# Altium integrated library Altium_WE-PD_rev22g.IntLib: 360 symbols (part 6 of 7)
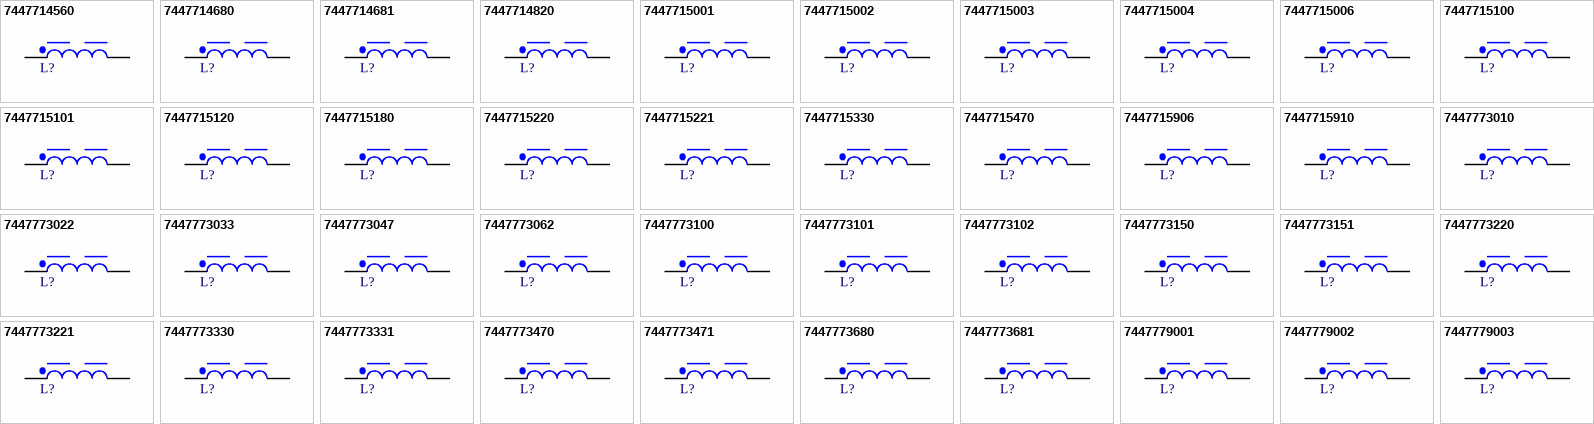
[diagram p13: symbols 7447714560 to 7447779003]

## 7447779001
designator L?, comment 1uH, 5.3A  (value not drawn)
WE-PD SMT Power Inductor, size 7345R, 1uH, 5.3A, 15mOhm; Manufacturer Part Number: 7447779001; Manufacturer: Wurth Elektronik; DC Resistance: 10mOhm; Saturation Current: 9.5A; Self Resonant Frequency: 100MHz; Type: Robust; Category: Power Inductors; Match Code: WE-PD; ComponentLink1Description: Website Link; ComponentLink1URL: https://www.we-online.com/redexpert/article/7447779001?ad; ComponentLink2Description: Datasheet Link; ComponentLink2URL: https://www.we-online.com/redexpert/spec/7447779001?ad; Mount: Surface Mount; Operating Temperature Max: 125°C; Operating Temperature Min: -40°C; Packaging: Tape and Reel; Case/Size Code: 7345R; Length: 7.3mm; Width: 7.3mm; Height: 4.5mm; DC Resistance Max: 15mOhm; Inductance: 1uH; Rated Current: 5.3A
footprint WE-PD_7345R
simulation model 7345_7447779001_1u
pins: 1, 2

## 7447779002
designator L?, comment 2.2uH, 4.2A  (value not drawn)
WE-PD SMT Power Inductor, size 7345R, 2.2uH, 4.2A, 20mOhm; Manufacturer Part Number: 7447779002; Manufacturer: Wurth Elektronik; DC Resistance: 16mOhm; Saturation Current: 6A; Self Resonant Frequency: 60MHz; Type: Robust; Category: Power Inductors; Match Code: WE-PD; ComponentLink1Description: Website Link; ComponentLink1URL: https://www.we-online.com/redexpert/article/7447779002?ad; ComponentLink2Description: Datasheet Link; ComponentLink2URL: https://www.we-online.com/redexpert/spec/7447779002?ad; Mount: Surface Mount; Operating Temperature Max: 125°C; Operating Temperature Min: -40°C; Packaging: Tape and Reel; Case/Size Code: 7345R; Length: 7.3mm; Width: 7.3mm; Height: 4.5mm; DC Resistance Max: 20mOhm; Inductance: 2.2uH; Rated Current: 4.2A
footprint WE-PD_7345R
simulation model 7345_7447779002_2.2u
pins: 1, 2

## 7447779003
designator L?, comment 3.3uH, 3.3A  (value not drawn)
WE-PD SMT Power Inductor, size 7345R, 3.3uH, 3.3A, 30mOhm; Manufacturer Part Number: 7447779003; Manufacturer: Wurth Elektronik; DC Resistance: 26mOhm; Saturation Current: 4.5A; Self Resonant Frequency: 55MHz; Type: Robust; Category: Power Inductors; Match Code: WE-PD; ComponentLink1Description: Website Link; ComponentLink1URL: https://www.we-online.com/redexpert/article/7447779003?ad; ComponentLink2Description: Datasheet Link; ComponentLink2URL: https://www.we-online.com/redexpert/spec/7447779003?ad; Mount: Surface Mount; Operating Temperature Max: 125°C; Operating Temperature Min: -40°C; Packaging: Tape and Reel; Case/Size Code: 7345R; Length: 7.3mm; Width: 7.3mm; Height: 4.5mm; DC Resistance Max: 30mOhm; Inductance: 3.3uH; Rated Current: 3.3A
footprint WE-PD_7345R
simulation model 7345_7447779003_3.3u
pins: 1, 2

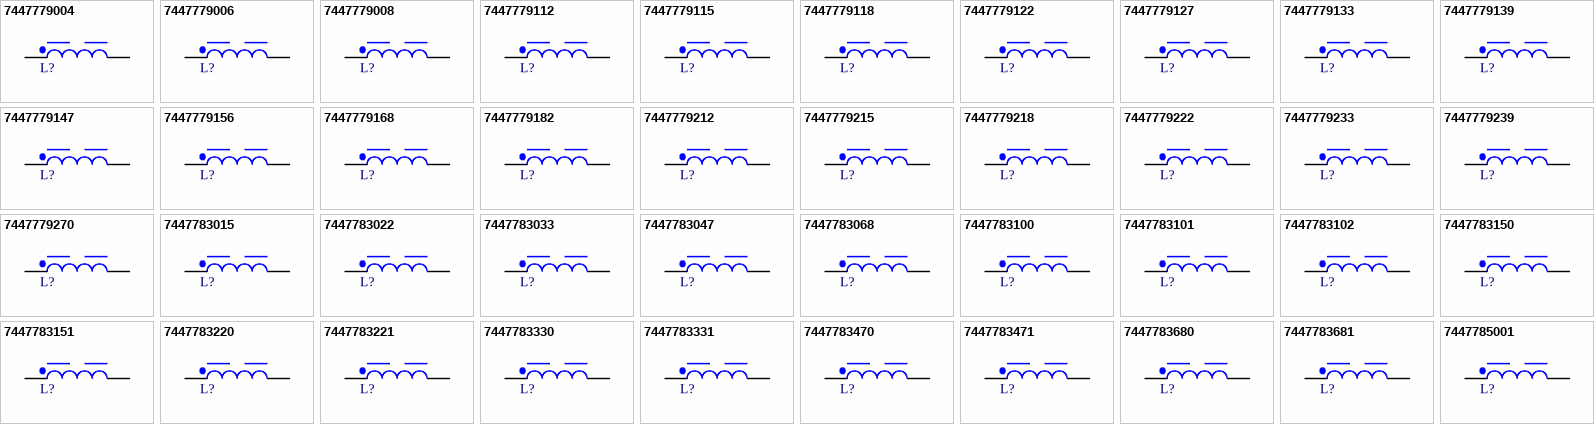
[diagram p7: symbols 7447779004 to 7447785001]

## 7447779004
designator L?, comment 4.7uH, 3.16A  (value not drawn)
WE-PD SMT Power Inductor, size 7345R, 4.7uH, 3.16A, 32mOhm; Manufacturer Part Number: 7447779004; Manufacturer: Wurth Elektronik; DC Resistance: 28mOhm; Saturation Current: 4.4A; Self Resonant Frequency: 37MHz; Type: Robust; Category: Power Inductors; Match Code: WE-PD; ComponentLink1Description: Website Link; ComponentLink1URL: https://www.we-online.com/redexpert/article/7447779004?ad; ComponentLink2Description: Datasheet Link; ComponentLink2URL: https://www.we-online.com/redexpert/spec/7447779004?ad; Mount: Surface Mount; Operating Temperature Max: 125°C; Operating Temperature Min: -40°C; Packaging: Tape and Reel; Case/Size Code: 7345R; Length: 7.3mm; Width: 7.3mm; Height: 4.5mm; DC Resistance Max: 32mOhm; Inductance: 4.7uH; Rated Current: 3.16A
footprint WE-PD_7345R
simulation model 7345_7447779004_4.7u
pins: 1, 2

## 7447779006
designator L?, comment 6.8uH, 2.91A  (value not drawn)
WE-PD SMT Power Inductor, size 7345R, 6.8uH, 2.91A, 35mOhm; Manufacturer Part Number: 7447779006; Manufacturer: Wurth Elektronik; DC Resistance: 33mOhm; Saturation Current: 3.3A; Self Resonant Frequency: 32MHz; Type: Robust; Category: Power Inductors; Match Code: WE-PD; ComponentLink1Description: Website Link; ComponentLink1URL: https://www.we-online.com/redexpert/article/7447779006?ad; ComponentLink2Description: Datasheet Link; ComponentLink2URL: https://www.we-online.com/redexpert/spec/7447779006?ad; Mount: Surface Mount; Operating Temperature Max: 125°C; Operating Temperature Min: -40°C; Packaging: Tape and Reel; Case/Size Code: 7345R; Length: 7.3mm; Width: 7.3mm; Height: 4.5mm; DC Resistance Max: 35mOhm; Inductance: 6.8uH; Rated Current: 2.91A
footprint WE-PD_7345R
simulation model 7345_7447779006_6.8u
pins: 1, 2

## 7447779008
designator L?, comment 8.2uH, 2.7A  (value not drawn)
WE-PD SMT Power Inductor, size 7345R, 8.2uH, 2.7A, 53mOhm; Manufacturer Part Number: 7447779008; Manufacturer: Wurth Elektronik; DC Resistance: 47mOhm; Saturation Current: 3A; Self Resonant Frequency: 28MHz; Type: Robust; Category: Power Inductors; Match Code: WE-PD; ComponentLink1Description: Website Link; ComponentLink1URL: https://www.we-online.com/redexpert/article/7447779008?ad; ComponentLink2Description: Datasheet Link; ComponentLink2URL: https://www.we-online.com/redexpert/spec/7447779008?ad; Mount: Surface Mount; Operating Temperature Max: 125°C; Operating Temperature Min: -40°C; Packaging: Tape and Reel; Case/Size Code: 7345R; Length: 7.3mm; Width: 7.3mm; Height: 4.5mm; DC Resistance Max: 53mOhm; Inductance: 8.2uH; Rated Current: 2.7A
footprint WE-PD_7345R
simulation model 7345_7447779008_8.2u
pins: 1, 2

## 7447779112
designator L?, comment 12uH, 1.82A  (value not drawn)
WE-PD SMT Power Inductor, size 7345R, 12uH, 1.82A, 62mOhm; Manufacturer Part Number: 7447779112; Manufacturer: Wurth Elektronik; DC Resistance: 52mOhm; Saturation Current: 2.4A; Self Resonant Frequency: 23MHz; Type: Robust; Category: Power Inductors; Match Code: WE-PD; ComponentLink1Description: Website Link; ComponentLink1URL: https://www.we-online.com/redexpert/article/7447779112?ad; ComponentLink2Description: Datasheet Link; ComponentLink2URL: https://www.we-online.com/redexpert/spec/7447779112?ad; Mount: Surface Mount; Operating Temperature Max: 125°C; Operating Temperature Min: -40°C; Packaging: Tape and Reel; Case/Size Code: 7345R; Length: 7.3mm; Width: 7.3mm; Height: 4.5mm; DC Resistance Max: 62mOhm; Inductance: 12uH; Rated Current: 1.82A
footprint WE-PD_7345R
simulation model 7345_7447779112_12u
pins: 1, 2

## 7447779115
designator L?, comment 15uH, 1.6A  (value not drawn)
WE-PD SMT Power Inductor, size 7345R, 15uH, 1.6A, 81mOhm; Manufacturer Part Number: 7447779115; Manufacturer: Wurth Elektronik; DC Resistance: 70mOhm; Saturation Current: 2.2A; Self Resonant Frequency: 19.5MHz; Type: Robust; Category: Power Inductors; Match Code: WE-PD; ComponentLink1Description: Website Link; ComponentLink1URL: https://www.we-online.com/redexpert/article/7447779115?ad; ComponentLink2Description: Datasheet Link; ComponentLink2URL: https://www.we-online.com/redexpert/spec/7447779115?ad; Mount: Surface Mount; Operating Temperature Max: 125°C; Operating Temperature Min: -40°C; Packaging: Tape and Reel; Case/Size Code: 7345R; Length: 7.3mm; Width: 7.3mm; Height: 4.5mm; DC Resistance Max: 81mOhm; Inductance: 15uH; Rated Current: 1.6A
footprint WE-PD_7345R
simulation model 7345_7447779115_15u
pins: 1, 2

## 7447779118
designator L?, comment 18uH, 1.5A  (value not drawn)
WE-PD SMT Power Inductor, size 7345R, 18uH, 1.5A, 91mOhm; Manufacturer Part Number: 7447779118; Manufacturer: Wurth Elektronik; DC Resistance: 80mOhm; Saturation Current: 2.05A; Self Resonant Frequency: 19MHz; Type: Robust; Category: Power Inductors; Match Code: WE-PD; ComponentLink1Description: Website Link; ComponentLink1URL: https://www.we-online.com/redexpert/article/7447779118?ad; ComponentLink2Description: Datasheet Link; ComponentLink2URL: https://www.we-online.com/redexpert/spec/7447779118?ad; Mount: Surface Mount; Operating Temperature Max: 125°C; Operating Temperature Min: -40°C; Packaging: Tape and Reel; Case/Size Code: 7345R; Length: 7.3mm; Width: 7.3mm; Height: 4.5mm; DC Resistance Max: 91mOhm; Inductance: 18uH; Rated Current: 1.5A
footprint WE-PD_7345R
simulation model 7345_7447779118_18u
pins: 1, 2

## 7447779122
designator L?, comment 22uH, 1.41A  (value not drawn)
WE-PD SMT Power Inductor, size 7345R, 22uH, 1.41A, 110mOhm; Manufacturer Part Number: 7447779122; Manufacturer: Wurth Elektronik; DC Resistance: 90mOhm; Saturation Current: 1.7A; Self Resonant Frequency: 17MHz; Type: Robust; Category: Power Inductors; Match Code: WE-PD; ComponentLink1Description: Website Link; ComponentLink1URL: https://www.we-online.com/redexpert/article/7447779122?ad; ComponentLink2Description: Datasheet Link; ComponentLink2URL: https://www.we-online.com/redexpert/spec/7447779122?ad; Mount: Surface Mount; Operating Temperature Max: 125°C; Operating Temperature Min: -40°C; Packaging: Tape and Reel; Case/Size Code: 7345R; Length: 7.3mm; Width: 7.3mm; Height: 4.5mm; DC Resistance Max: 110mOhm; Inductance: 22uH; Rated Current: 1.41A
footprint WE-PD_7345R
simulation model 7345_7447779122_22u
pins: 1, 2

## 7447779127
designator L?, comment 27uH, 1.24A  (value not drawn)
WE-PD SMT Power Inductor, size 7345R, 27uH, 1.24A, 150mOhm; Manufacturer Part Number: 7447779127; Manufacturer: Wurth Elektronik; DC Resistance: 120mOhm; Saturation Current: 1.55A; Self Resonant Frequency: 15MHz; Type: Robust; Category: Power Inductors; Match Code: WE-PD; ComponentLink1Description: Website Link; ComponentLink1URL: https://www.we-online.com/redexpert/article/7447779127?ad; ComponentLink2Description: Datasheet Link; ComponentLink2URL: https://www.we-online.com/redexpert/spec/7447779127?ad; Mount: Surface Mount; Operating Temperature Max: 125°C; Operating Temperature Min: -40°C; Packaging: Tape and Reel; Case/Size Code: 7345R; Length: 7.3mm; Width: 7.3mm; Height: 4.5mm; DC Resistance Max: 150mOhm; Inductance: 27uH; Rated Current: 1.24A
footprint WE-PD_7345R
simulation model 7345_7447779127_27u
pins: 1, 2

## 7447779133
designator L?, comment 33uH, 1.13A  (value not drawn)
WE-PD SMT Power Inductor, size 7345R, 33uH, 1.13A, 170mOhm; Manufacturer Part Number: 7447779133; Manufacturer: Wurth Elektronik; DC Resistance: 140mOhm; Saturation Current: 1.4A; Self Resonant Frequency: 13MHz; Type: Robust; Category: Power Inductors; Match Code: WE-PD; ComponentLink1Description: Website Link; ComponentLink1URL: https://www.we-online.com/redexpert/article/7447779133?ad; ComponentLink2Description: Datasheet Link; ComponentLink2URL: https://www.we-online.com/redexpert/spec/7447779133?ad; Mount: Surface Mount; Operating Temperature Max: 125°C; Operating Temperature Min: -40°C; Packaging: Tape and Reel; Case/Size Code: 7345R; Length: 7.3mm; Width: 7.3mm; Height: 4.5mm; DC Resistance Max: 170mOhm; Inductance: 33uH; Rated Current: 1.13A
footprint WE-PD_7345R
simulation model 7345_7447779133_33u
pins: 1, 2

## 7447779139
designator L?, comment 39uH, 1.11A  (value not drawn)
WE-PD SMT Power Inductor, size 7345R, 39uH, 1.11A, 230mOhm; Manufacturer Part Number: 7447779139; Manufacturer: Wurth Elektronik; DC Resistance: 145mOhm; Saturation Current: 1.23A; Self Resonant Frequency: 12MHz; Type: Robust; Category: Power Inductors; Match Code: WE-PD; ComponentLink1Description: Website Link; ComponentLink1URL: https://www.we-online.com/redexpert/article/7447779139?ad; ComponentLink2Description: Datasheet Link; ComponentLink2URL: https://www.we-online.com/redexpert/spec/7447779139?ad; Mount: Surface Mount; Operating Temperature Max: 125°C; Operating Temperature Min: -40°C; Packaging: Tape and Reel; Case/Size Code: 7345R; Length: 7.3mm; Width: 7.3mm; Height: 4.5mm; DC Resistance Max: 230mOhm; Inductance: 39uH; Rated Current: 1.11A
footprint WE-PD_7345R
simulation model 7345_7447779139_39u
pins: 1, 2

## 7447779147
designator L?, comment 47uH, 1.03A  (value not drawn)
WE-PD SMT Power Inductor, size 7345R, 47uH, 1.03A, 260mOhm; Manufacturer Part Number: 7447779147; Manufacturer: Wurth Elektronik; DC Resistance: 190mOhm; Saturation Current: 1.1A; Self Resonant Frequency: 10.5MHz; Type: Robust; Category: Power Inductors; Match Code: WE-PD; ComponentLink1Description: Website Link; ComponentLink1URL: https://www.we-online.com/redexpert/article/7447779147?ad; ComponentLink2Description: Datasheet Link; ComponentLink2URL: https://www.we-online.com/redexpert/spec/7447779147?ad; Mount: Surface Mount; Operating Temperature Max: 125°C; Operating Temperature Min: -40°C; Packaging: Tape and Reel; Case/Size Code: 7345R; Length: 7.3mm; Width: 7.3mm; Height: 4.5mm; DC Resistance Max: 260mOhm; Inductance: 47uH; Rated Current: 1.03A
footprint WE-PD_7345R
simulation model 7345_7447779147_47u
pins: 1, 2

## 7447779156
designator L?, comment 56uH, 0.93A  (value not drawn)
WE-PD SMT Power Inductor, size 7345R, 56uH, 0.93A, 350mOhm; Manufacturer Part Number: 7447779156; Manufacturer: Wurth Elektronik; DC Resistance: 228mOhm; Saturation Current: 1.05A; Self Resonant Frequency: 10MHz; Type: Robust; Category: Power Inductors; Match Code: WE-PD; ComponentLink1Description: Website Link; ComponentLink1URL: https://www.we-online.com/redexpert/article/7447779156?ad; ComponentLink2Description: Datasheet Link; ComponentLink2URL: https://www.we-online.com/redexpert/spec/7447779156?ad; Mount: Surface Mount; Operating Temperature Max: 125°C; Operating Temperature Min: -40°C; Packaging: Tape and Reel; Case/Size Code: 7345R; Length: 7.3mm; Width: 7.3mm; Height: 4.5mm; DC Resistance Max: 350mOhm; Inductance: 56uH; Rated Current: 0.93A
footprint WE-PD_7345R
simulation model 7345_7447779156_56u
pins: 1, 2

## 7447779168
designator L?, comment 68uH, 0.87A  (value not drawn)
WE-PD SMT Power Inductor, size 7345R, 68uH, 0.87A, 380mOhm; Manufacturer Part Number: 7447779168; Manufacturer: Wurth Elektronik; DC Resistance: 239mOhm; Saturation Current: 0.95A; Self Resonant Frequency: 9MHz; Type: Robust; Category: Power Inductors; Match Code: WE-PD; ComponentLink1Description: Website Link; ComponentLink1URL: https://www.we-online.com/redexpert/article/7447779168?ad; ComponentLink2Description: Datasheet Link; ComponentLink2URL: https://www.we-online.com/redexpert/spec/7447779168?ad; Mount: Surface Mount; Operating Temperature Max: 125°C; Operating Temperature Min: -40°C; Packaging: Tape and Reel; Case/Size Code: 7345R; Length: 7.3mm; Width: 7.3mm; Height: 4.5mm; DC Resistance Max: 380mOhm; Inductance: 68uH; Rated Current: 0.87A
footprint WE-PD_7345R
simulation model 7345_7447779168_68u
pins: 1, 2

## 7447779182
designator L?, comment 82uH, 0.84A  (value not drawn)
WE-PD SMT Power Inductor, size 7345R, 82uH, 0.84A, 430mOhm; Manufacturer Part Number: 7447779182; Manufacturer: Wurth Elektronik; DC Resistance: 250mOhm; Saturation Current: 0.9A; Self Resonant Frequency: 8MHz; Type: Robust; Category: Power Inductors; Match Code: WE-PD; ComponentLink1Description: Website Link; ComponentLink1URL: https://www.we-online.com/redexpert/article/7447779182?ad; ComponentLink2Description: Datasheet Link; ComponentLink2URL: https://www.we-online.com/redexpert/spec/7447779182?ad; Mount: Surface Mount; Operating Temperature Max: 125°C; Operating Temperature Min: -40°C; Packaging: Tape and Reel; Case/Size Code: 7345R; Length: 7.3mm; Width: 7.3mm; Height: 4.5mm; DC Resistance Max: 430mOhm; Inductance: 82uH; Rated Current: 0.84A
footprint WE-PD_7345R
simulation model 7345_7447779182_82u
pins: 1, 2

## 7447779212
designator L?, comment 120uH, 0.67A  (value not drawn)
WE-PD SMT Power Inductor, size 7345R, 120uH, 0.67A, 660mOhm; Manufacturer Part Number: 7447779212; Manufacturer: Wurth Elektronik; DC Resistance: 396mOhm; Saturation Current: 0.7A; Self Resonant Frequency: 6.7MHz; Type: Robust; Category: Power Inductors; Match Code: WE-PD; ComponentLink1Description: Website Link; ComponentLink1URL: https://www.we-online.com/redexpert/article/7447779212?ad; ComponentLink2Description: Datasheet Link; ComponentLink2URL: https://www.we-online.com/redexpert/spec/7447779212?ad; Mount: Surface Mount; Operating Temperature Max: 125°C; Operating Temperature Min: -40°C; Packaging: Tape and Reel; Case/Size Code: 7345R; Length: 7.3mm; Width: 7.3mm; Height: 4.5mm; DC Resistance Max: 660mOhm; Inductance: 120uH; Rated Current: 0.67A
footprint WE-PD_7345R
simulation model 7345_7447779212_120u
pins: 1, 2

## 7447779215
designator L?, comment 150uH, 0.52A  (value not drawn)
WE-PD SMT Power Inductor, size 7345R, 150uH, 0.52A, 880mOhm; Manufacturer Part Number: 7447779215; Manufacturer: Wurth Elektronik; DC Resistance: 529mOhm; Saturation Current: 0.63A; Self Resonant Frequency: 6MHz; Type: Robust; Category: Power Inductors; Match Code: WE-PD; ComponentLink1Description: Website Link; ComponentLink1URL: https://www.we-online.com/redexpert/article/7447779215?ad; ComponentLink2Description: Datasheet Link; ComponentLink2URL: https://www.we-online.com/redexpert/spec/7447779215?ad; Mount: Surface Mount; Operating Temperature Max: 125°C; Operating Temperature Min: -40°C; Packaging: Tape and Reel; Case/Size Code: 7345R; Length: 7.3mm; Width: 7.3mm; Height: 4.5mm; DC Resistance Max: 880mOhm; Inductance: 150uH; Rated Current: 0.52A
footprint WE-PD_7345R
simulation model 7345_7447779215_150u
pins: 1, 2

## 7447779218
designator L?, comment 180uH, 0.51A  (value not drawn)
WE-PD SMT Power Inductor, size 7345R, 180uH, 0.51A, 980mOhm; Manufacturer Part Number: 7447779218; Manufacturer: Wurth Elektronik; DC Resistance: 603mOhm; Saturation Current: 0.56A; Self Resonant Frequency: 5.3MHz; Type: Robust; Category: Power Inductors; Match Code: WE-PD; ComponentLink1Description: Website Link; ComponentLink1URL: https://www.we-online.com/redexpert/article/7447779218?ad; ComponentLink2Description: Datasheet Link; ComponentLink2URL: https://www.we-online.com/redexpert/spec/7447779218?ad; Mount: Surface Mount; Operating Temperature Max: 125°C; Operating Temperature Min: -40°C; Packaging: Tape and Reel; Case/Size Code: 7345R; Length: 7.3mm; Width: 7.3mm; Height: 4.5mm; DC Resistance Max: 980mOhm; Inductance: 180uH; Rated Current: 0.51A
footprint WE-PD_7345R
simulation model 7345_7447779218_180u
pins: 1, 2

## 7447779222
designator L?, comment 220uH, 0.44A  (value not drawn)
WE-PD SMT Power Inductor, size 7345R, 220uH, 0.44A, 1170mOhm; Manufacturer Part Number: 7447779222; Manufacturer: Wurth Elektronik; DC Resistance: 920mOhm; Saturation Current: 0.54A; Self Resonant Frequency: 5MHz; Type: Robust; Category: Power Inductors; Match Code: WE-PD; ComponentLink1Description: Website Link; ComponentLink1URL: https://www.we-online.com/redexpert/article/7447779222?ad; ComponentLink2Description: Datasheet Link; ComponentLink2URL: https://www.we-online.com/redexpert/spec/7447779222?ad; Mount: Surface Mount; Operating Temperature Max: 125°C; Operating Temperature Min: -40°C; Packaging: Tape and Reel; Case/Size Code: 7345R; Length: 7.3mm; Width: 7.3mm; Height: 4.5mm; DC Resistance Max: 1170mOhm; Inductance: 220uH; Rated Current: 0.44A
footprint WE-PD_7345R
simulation model 7345_7447779222_220u
pins: 1, 2

## 7447779233
designator L?, comment 330uH, 0.39A  (value not drawn)
WE-PD SMT Power Inductor, size 7345R, 330uH, 0.39A, 1860mOhm; Manufacturer Part Number: 7447779233; Manufacturer: Wurth Elektronik; DC Resistance: 1150mOhm; Saturation Current: 0.45A; Self Resonant Frequency: 4MHz; Type: Robust; Category: Power Inductors; Match Code: WE-PD; ComponentLink1Description: Website Link; ComponentLink1URL: https://www.we-online.com/redexpert/article/7447779233?ad; ComponentLink2Description: Datasheet Link; ComponentLink2URL: https://www.we-online.com/redexpert/spec/7447779233?ad; Mount: Surface Mount; Operating Temperature Max: 125°C; Operating Temperature Min: -40°C; Packaging: Tape and Reel; Case/Size Code: 7345R; Length: 7.3mm; Width: 7.3mm; Height: 4.5mm; DC Resistance Max: 1860mOhm; Inductance: 330uH; Rated Current: 0.39A
footprint WE-PD_7345R
simulation model 7345_7447779233_330u
pins: 1, 2

## 7447779239
designator L?, comment 390uH, 0.38A  (value not drawn)
WE-PD SMT Power Inductor, size 7345R, 390uH, 0.38A, 2850mOhm; Manufacturer Part Number: 7447779239; Manufacturer: Wurth Elektronik; DC Resistance: 1400mOhm; Saturation Current: 0.42A; Self Resonant Frequency: 3.8MHz; Type: Robust; Category: Power Inductors; Match Code: WE-PD; ComponentLink1Description: Website Link; ComponentLink1URL: https://www.we-online.com/redexpert/article/7447779239?ad; ComponentLink2Description: Datasheet Link; ComponentLink2URL: https://www.we-online.com/redexpert/spec/7447779239?ad; Mount: Surface Mount; Operating Temperature Max: 125°C; Operating Temperature Min: -40°C; Packaging: Tape and Reel; Case/Size Code: 7345R; Length: 7.3mm; Width: 7.3mm; Height: 4.5mm; DC Resistance Max: 2850mOhm; Inductance: 390uH; Rated Current: 0.38A
footprint WE-PD_7345R
simulation model 7345_7447779239_390u
pins: 1, 2

## 7447779270
designator L?, comment 270uH, 0.43A  (value not drawn)
WE-PD SMT Power Inductor, size 7345R, 270uH, 0.43A, 1640mOhm; Manufacturer Part Number: 7447779270; Manufacturer: Wurth Elektronik; DC Resistance: 1090mOhm; Saturation Current: 0.48A; Self Resonant Frequency: 4.3MHz; Type: Robust; Category: Power Inductors; Match Code: WE-PD; ComponentLink1Description: Website Link; ComponentLink1URL: https://www.we-online.com/redexpert/article/7447779270?ad; ComponentLink2Description: Datasheet Link; ComponentLink2URL: https://www.we-online.com/redexpert/spec/7447779270?ad; Mount: Surface Mount; Operating Temperature Max: 125°C; Operating Temperature Min: -40°C; Packaging: Tape and Reel; Case/Size Code: 7345R; Length: 7.3mm; Width: 7.3mm; Height: 4.5mm; DC Resistance Max: 1640mOhm; Inductance: 270uH; Rated Current: 0.43A
footprint WE-PD_7345R
simulation model 7345_7447779270_270u
pins: 1, 2

## 7447783015
designator L?, comment 1.5uH, 5A  (value not drawn)
WE-PD SMT Power Inductor, size 7332P, 1.5uH, 5A, 15mOhm; Manufacturer Part Number: 7447783015; Manufacturer: Wurth Elektronik; DC Resistance: 12mOhm; Saturation Current: 7.8A; Self Resonant Frequency: 73MHz; Type: Performance; Category: Power Inductors; Match Code: WE-PD; ComponentLink1Description: Website Link; ComponentLink1URL: https://www.we-online.com/redexpert/article/7447783015?ad; ComponentLink2Description: Datasheet Link; ComponentLink2URL: https://www.we-online.com/redexpert/spec/7447783015?ad; Mount: Surface Mount; Operating Temperature Max: 150°C; Operating Temperature Min: -40°C; Packaging: Tape and Reel; Case/Size Code: 7332P; Length: 7.3mm; Width: 7.4mm; Height: 3.5mm; DC Resistance Max: 15mOhm; Inductance: 1.5uH; Rated Current: 5A
footprint WE-PD_7332P
simulation model 7332_7447783015_1.5u
pins: 1, 2

## 7447783022
designator L?, comment 2.2uH, 4.5A  (value not drawn)
WE-PD SMT Power Inductor, size 7332P, 2.2uH, 4.5A, 19mOhm; Manufacturer Part Number: 7447783022; Manufacturer: Wurth Elektronik; DC Resistance: 15.5mOhm; Saturation Current: 6.5A; Self Resonant Frequency: 62MHz; Type: Performance; Category: Power Inductors; Match Code: WE-PD; ComponentLink1Description: Website Link; ComponentLink1URL: https://www.we-online.com/redexpert/article/7447783022?ad; ComponentLink2Description: Datasheet Link; ComponentLink2URL: https://www.we-online.com/redexpert/spec/7447783022?ad; Mount: Surface Mount; Operating Temperature Max: 150°C; Operating Temperature Min: -40°C; Packaging: Tape and Reel; Case/Size Code: 7332P; Length: 7.3mm; Width: 7.4mm; Height: 3.5mm; DC Resistance Max: 19mOhm; Inductance: 2.2uH; Rated Current: 4.5A
footprint WE-PD_7332P
simulation model 7332_7447783022_2.2u
pins: 1, 2

## 7447783033
designator L?, comment 3.3uH, 4.1A  (value not drawn)
WE-PD SMT Power Inductor, size 7332P, 3.3uH, 4.1A, 24mOhm; Manufacturer Part Number: 7447783033; Manufacturer: Wurth Elektronik; DC Resistance: 18mOhm; Saturation Current: 5.3A; Self Resonant Frequency: 51MHz; Type: Performance; Category: Power Inductors; Match Code: WE-PD; ComponentLink1Description: Website Link; ComponentLink1URL: https://www.we-online.com/redexpert/article/7447783033?ad; ComponentLink2Description: Datasheet Link; ComponentLink2URL: https://www.we-online.com/redexpert/spec/7447783033?ad; Mount: Surface Mount; Operating Temperature Max: 150°C; Operating Temperature Min: -40°C; Packaging: Tape and Reel; Case/Size Code: 7332P; Length: 7.3mm; Width: 7.4mm; Height: 3.5mm; DC Resistance Max: 24mOhm; Inductance: 3.3uH; Rated Current: 4.1A
footprint WE-PD_7332P
simulation model 7332_7447783033_3.3u
pins: 1, 2

## 7447783047
designator L?, comment 4.7uH, 3.3A  (value not drawn)
WE-PD SMT Power Inductor, size 7332P, 4.7uH, 3.3A, 35mOhm; Manufacturer Part Number: 7447783047; Manufacturer: Wurth Elektronik; DC Resistance: 27mOhm; Saturation Current: 4.6A; Self Resonant Frequency: 38MHz; Type: Performance; Category: Power Inductors; Match Code: WE-PD; ComponentLink1Description: Website Link; ComponentLink1URL: https://www.we-online.com/redexpert/article/7447783047?ad; ComponentLink2Description: Datasheet Link; ComponentLink2URL: https://www.we-online.com/redexpert/spec/7447783047?ad; Mount: Surface Mount; Operating Temperature Max: 150°C; Operating Temperature Min: -40°C; Packaging: Tape and Reel; Case/Size Code: 7332P; Length: 7.3mm; Width: 7.4mm; Height: 3.5mm; DC Resistance Max: 35mOhm; Inductance: 4.7uH; Rated Current: 3.3A
footprint WE-PD_7332P
simulation model 7332_7447783047_4.7u
pins: 1, 2

## 7447783068
designator L?, comment 6.8uH, 2.9A  (value not drawn)
WE-PD SMT Power Inductor, size 7332P, 6.8uH, 2.9A, 41mOhm; Manufacturer Part Number: 7447783068; Manufacturer: Wurth Elektronik; DC Resistance: 33mOhm; Saturation Current: 3.8A; Self Resonant Frequency: 35MHz; Type: Performance; Category: Power Inductors; Match Code: WE-PD; ComponentLink1Description: Website Link; ComponentLink1URL: https://www.we-online.com/redexpert/article/7447783068?ad; ComponentLink2Description: Datasheet Link; ComponentLink2URL: https://www.we-online.com/redexpert/spec/7447783068?ad; Mount: Surface Mount; Operating Temperature Max: 150°C; Operating Temperature Min: -40°C; Packaging: Tape and Reel; Case/Size Code: 7332P; Length: 7.3mm; Width: 7.4mm; Height: 3.5mm; DC Resistance Max: 41mOhm; Inductance: 6.8uH; Rated Current: 2.9A
footprint WE-PD_7332P
simulation model 7332_7447783068_6.8u
pins: 1, 2

## 7447783100
designator L?, comment 10uH, 2.2A  (value not drawn)
WE-PD SMT Power Inductor, size 7332P, 10uH, 2.2A, 68mOhm; Manufacturer Part Number: 7447783100; Manufacturer: Wurth Elektronik; DC Resistance: 56mOhm; Saturation Current: 3.1A; Self Resonant Frequency: 30MHz; Type: Performance; Category: Power Inductors; Match Code: WE-PD; ComponentLink1Description: Website Link; ComponentLink1URL: https://www.we-online.com/redexpert/article/7447783100?ad; ComponentLink2Description: Datasheet Link; ComponentLink2URL: https://www.we-online.com/redexpert/spec/7447783100?ad; Mount: Surface Mount; Operating Temperature Max: 150°C; Operating Temperature Min: -40°C; Packaging: Tape and Reel; Case/Size Code: 7332P; Length: 7.3mm; Width: 7.4mm; Height: 3.5mm; DC Resistance Max: 68mOhm; Inductance: 10uH; Rated Current: 2.2A
footprint WE-PD_7332P
simulation model 7332_7447783100_10u
pins: 1, 2

## 7447783101
designator L?, comment 100uH, 0.82A  (value not drawn)
WE-PD SMT Power Inductor, size 7332P, 100uH, 0.82A, 450mOhm; Manufacturer Part Number: 7447783101; Manufacturer: Wurth Elektronik; DC Resistance: 390mOhm; Saturation Current: 1A; Self Resonant Frequency: 7.8MHz; Type: Performance; Category: Power Inductors; Match Code: WE-PD; ComponentLink1Description: Website Link; ComponentLink1URL: https://www.we-online.com/redexpert/article/7447783101?ad; ComponentLink2Description: Datasheet Link; ComponentLink2URL: https://www.we-online.com/redexpert/spec/7447783101?ad; Mount: Surface Mount; Operating Temperature Max: 150°C; Operating Temperature Min: -40°C; Packaging: Tape and Reel; Case/Size Code: 7332P; Length: 7.3mm; Width: 7.4mm; Height: 3.5mm; DC Resistance Max: 450mOhm; Inductance: 100uH; Rated Current: 0.82A
footprint WE-PD_7332P
simulation model 7332_7447783101_100u
pins: 1, 2

## 7447783102
designator L?, comment 1000uH, 0.23A  (value not drawn)
WE-PD SMT Power Inductor, size 7332P, 1000uH, 0.23A, 4600mOhm; Manufacturer Part Number: 7447783102; Manufacturer: Wurth Elektronik; DC Resistance: 4000mOhm; Saturation Current: 0.32A; Self Resonant Frequency: 2.2MHz; Type: Performance; Category: Power Inductors; Match Code: WE-PD; ComponentLink1Description: Website Link; ComponentLink1URL: https://www.we-online.com/redexpert/article/7447783102?ad; ComponentLink2Description: Datasheet Link; ComponentLink2URL: https://www.we-online.com/redexpert/spec/7447783102?ad; Mount: Surface Mount; Operating Temperature Max: 150°C; Operating Temperature Min: -40°C; Packaging: Tape and Reel; Case/Size Code: 7332P; Length: 7.3mm; Width: 7.4mm; Height: 3.5mm; DC Resistance Max: 4600mOhm; Inductance: 1000uH; Rated Current: 0.23A
footprint WE-PD_7332P
simulation model 7332_7447783102_1000u
pins: 1, 2

## 7447783150
designator L?, comment 15uH, 2A  (value not drawn)
WE-PD SMT Power Inductor, size 7332P, 15uH, 2A, 85mOhm; Manufacturer Part Number: 7447783150; Manufacturer: Wurth Elektronik; DC Resistance: 68mOhm; Saturation Current: 2.5A; Self Resonant Frequency: 23MHz; Type: Performance; Category: Power Inductors; Match Code: WE-PD; ComponentLink1Description: Website Link; ComponentLink1URL: https://www.we-online.com/redexpert/article/7447783150?ad; ComponentLink2Description: Datasheet Link; ComponentLink2URL: https://www.we-online.com/redexpert/spec/7447783150?ad; Mount: Surface Mount; Operating Temperature Max: 150°C; Operating Temperature Min: -40°C; Packaging: Tape and Reel; Case/Size Code: 7332P; Length: 7.3mm; Width: 7.4mm; Height: 3.5mm; DC Resistance Max: 85mOhm; Inductance: 15uH; Rated Current: 2A
footprint WE-PD_7332P
simulation model 7332_7447783150_15u
pins: 1, 2

## 7447783151
designator L?, comment 150uH, 0.63A  (value not drawn)
WE-PD SMT Power Inductor, size 7332P, 150uH, 0.63A, 750mOhm; Manufacturer Part Number: 7447783151; Manufacturer: Wurth Elektronik; DC Resistance: 630mOhm; Saturation Current: 0.84A; Self Resonant Frequency: 6.25MHz; Type: Performance; Category: Power Inductors; Match Code: WE-PD; ComponentLink1Description: Website Link; ComponentLink1URL: https://www.we-online.com/redexpert/article/7447783151?ad; ComponentLink2Description: Datasheet Link; ComponentLink2URL: https://www.we-online.com/redexpert/spec/7447783151?ad; Mount: Surface Mount; Operating Temperature Max: 150°C; Operating Temperature Min: -40°C; Packaging: Tape and Reel; Case/Size Code: 7332P; Length: 7.3mm; Width: 7.4mm; Height: 3.5mm; DC Resistance Max: 750mOhm; Inductance: 150uH; Rated Current: 0.63A
footprint WE-PD_7332P
simulation model 7332_7447783151_150u
pins: 1, 2

## 7447783220
designator L?, comment 22uH, 1.75A  (value not drawn)
WE-PD SMT Power Inductor, size 7332P, 22uH, 1.75A, 115mOhm; Manufacturer Part Number: 7447783220; Manufacturer: Wurth Elektronik; DC Resistance: 90mOhm; Saturation Current: 2.15A; Self Resonant Frequency: 18MHz; Type: Performance; Category: Power Inductors; Match Code: WE-PD; ComponentLink1Description: Website Link; ComponentLink1URL: https://www.we-online.com/redexpert/article/7447783220?ad; ComponentLink2Description: Datasheet Link; ComponentLink2URL: https://www.we-online.com/redexpert/spec/7447783220?ad; Mount: Surface Mount; Operating Temperature Max: 150°C; Operating Temperature Min: -40°C; Packaging: Tape and Reel; Case/Size Code: 7332P; Length: 7.3mm; Width: 7.4mm; Height: 3.5mm; DC Resistance Max: 115mOhm; Inductance: 22uH; Rated Current: 1.75A
footprint WE-PD_7332P
simulation model 7332_7447783220_22u
pins: 1, 2

## 7447783221
designator L?, comment 220uH, 0.54A  (value not drawn)
WE-PD SMT Power Inductor, size 7332P, 220uH, 0.54A, 1040mOhm; Manufacturer Part Number: 7447783221; Manufacturer: Wurth Elektronik; DC Resistance: 870mOhm; Saturation Current: 0.69A; Self Resonant Frequency: 5MHz; Type: Performance; Category: Power Inductors; Match Code: WE-PD; ComponentLink1Description: Website Link; ComponentLink1URL: https://www.we-online.com/redexpert/article/7447783221?ad; ComponentLink2Description: Datasheet Link; ComponentLink2URL: https://www.we-online.com/redexpert/spec/7447783221?ad; Mount: Surface Mount; Operating Temperature Max: 150°C; Operating Temperature Min: -40°C; Packaging: Tape and Reel; Case/Size Code: 7332P; Length: 7.3mm; Width: 7.4mm; Height: 3.5mm; DC Resistance Max: 1040mOhm; Inductance: 220uH; Rated Current: 0.54A
footprint WE-PD_7332P
simulation model 7332_7447783221_220u
pins: 1, 2

## 7447783330
designator L?, comment 33uH, 1.32A  (value not drawn)
WE-PD SMT Power Inductor, size 7332P, 33uH, 1.32A, 165mOhm; Manufacturer Part Number: 7447783330; Manufacturer: Wurth Elektronik; DC Resistance: 138mOhm; Saturation Current: 1.75A; Self Resonant Frequency: 14MHz; Type: Performance; Category: Power Inductors; Match Code: WE-PD; ComponentLink1Description: Website Link; ComponentLink1URL: https://www.we-online.com/redexpert/article/7447783330?ad; ComponentLink2Description: Datasheet Link; ComponentLink2URL: https://www.we-online.com/redexpert/spec/7447783330?ad; Mount: Surface Mount; Operating Temperature Max: 150°C; Operating Temperature Min: -40°C; Packaging: Tape and Reel; Case/Size Code: 7332P; Length: 7.3mm; Width: 7.4mm; Height: 3.5mm; DC Resistance Max: 165mOhm; Inductance: 33uH; Rated Current: 1.32A
footprint WE-PD_7332P
simulation model 7332_7447783330_33u
pins: 1, 2

## 7447783331
designator L?, comment 330uH, 0.45A  (value not drawn)
WE-PD SMT Power Inductor, size 7332P, 330uH, 0.45A, 1430mOhm; Manufacturer Part Number: 7447783331; Manufacturer: Wurth Elektronik; DC Resistance: 1240mOhm; Saturation Current: 0.56A; Self Resonant Frequency: 4MHz; Type: Performance; Category: Power Inductors; Match Code: WE-PD; ComponentLink1Description: Website Link; ComponentLink1URL: https://www.we-online.com/redexpert/article/7447783331?ad; ComponentLink2Description: Datasheet Link; ComponentLink2URL: https://www.we-online.com/redexpert/spec/7447783331?ad; Mount: Surface Mount; Operating Temperature Max: 150°C; Operating Temperature Min: -40°C; Packaging: Tape and Reel; Case/Size Code: 7332P; Length: 7.3mm; Width: 7.4mm; Height: 3.5mm; DC Resistance Max: 1430mOhm; Inductance: 330uH; Rated Current: 0.45A
footprint WE-PD_7332P
simulation model 7332_7447783331_330u
pins: 1, 2

## 7447783470
designator L?, comment 47uH, 1.2A  (value not drawn)
WE-PD SMT Power Inductor, size 7332P, 47uH, 1.2A, 210mOhm; Manufacturer Part Number: 7447783470; Manufacturer: Wurth Elektronik; DC Resistance: 180mOhm; Saturation Current: 1.45A; Self Resonant Frequency: 11.6MHz; Type: Performance; Category: Power Inductors; Match Code: WE-PD; ComponentLink1Description: Website Link; ComponentLink1URL: https://www.we-online.com/redexpert/article/7447783470?ad; ComponentLink2Description: Datasheet Link; ComponentLink2URL: https://www.we-online.com/redexpert/spec/7447783470?ad; Mount: Surface Mount; Operating Temperature Max: 150°C; Operating Temperature Min: -40°C; Packaging: Tape and Reel; Case/Size Code: 7332P; Length: 7.3mm; Width: 7.4mm; Height: 3.5mm; DC Resistance Max: 210mOhm; Inductance: 47uH; Rated Current: 1.2A
footprint WE-PD_7332P
simulation model 7332_7447783470_47u
pins: 1, 2

## 7447783471
designator L?, comment 470uH, 0.37A  (value not drawn)
WE-PD SMT Power Inductor, size 7332P, 470uH, 0.37A, 2040mOhm; Manufacturer Part Number: 7447783471; Manufacturer: Wurth Elektronik; DC Resistance: 1780mOhm; Saturation Current: 0.47A; Self Resonant Frequency: 3.3MHz; Type: Performance; Category: Power Inductors; Match Code: WE-PD; ComponentLink1Description: Website Link; ComponentLink1URL: https://www.we-online.com/redexpert/article/7447783471?ad; ComponentLink2Description: Datasheet Link; ComponentLink2URL: https://www.we-online.com/redexpert/spec/7447783471?ad; Mount: Surface Mount; Operating Temperature Max: 150°C; Operating Temperature Min: -40°C; Packaging: Tape and Reel; Case/Size Code: 7332P; Length: 7.3mm; Width: 7.4mm; Height: 3.5mm; DC Resistance Max: 2040mOhm; Inductance: 470uH; Rated Current: 0.37A
footprint WE-PD_7332P
simulation model 7332_7447783471_470u
pins: 1, 2

## 7447783680
designator L?, comment 68uH, 1A  (value not drawn)
WE-PD SMT Power Inductor, size 7332P, 68uH, 1A, 300mOhm; Manufacturer Part Number: 7447783680; Manufacturer: Wurth Elektronik; DC Resistance: 260mOhm; Saturation Current: 1.25A; Self Resonant Frequency: 9.3MHz; Type: Performance; Category: Power Inductors; Match Code: WE-PD; ComponentLink1Description: Website Link; ComponentLink1URL: https://www.we-online.com/redexpert/article/7447783680?ad; ComponentLink2Description: Datasheet Link; ComponentLink2URL: https://www.we-online.com/redexpert/spec/7447783680?ad; Mount: Surface Mount; Operating Temperature Max: 150°C; Operating Temperature Min: -40°C; Packaging: Tape and Reel; Case/Size Code: 7332P; Length: 7.3mm; Width: 7.4mm; Height: 3.5mm; DC Resistance Max: 300mOhm; Inductance: 68uH; Rated Current: 1A
footprint WE-PD_7332P
simulation model 7332_7447783680_68u
pins: 1, 2

## 7447783681
designator L?, comment 680uH, 0.31A  (value not drawn)
WE-PD SMT Power Inductor, size 7332P, 680uH, 0.31A, 2900mOhm; Manufacturer Part Number: 7447783681; Manufacturer: Wurth Elektronik; DC Resistance: 2520mOhm; Saturation Current: 0.39A; Self Resonant Frequency: 2.75MHz; Type: Performance; Category: Power Inductors; Match Code: WE-PD; ComponentLink1Description: Website Link; ComponentLink1URL: https://www.we-online.com/redexpert/article/7447783681?ad; ComponentLink2Description: Datasheet Link; ComponentLink2URL: https://www.we-online.com/redexpert/spec/7447783681?ad; Mount: Surface Mount; Operating Temperature Max: 150°C; Operating Temperature Min: -40°C; Packaging: Tape and Reel; Case/Size Code: 7332P; Length: 7.3mm; Width: 7.4mm; Height: 3.5mm; DC Resistance Max: 2900mOhm; Inductance: 680uH; Rated Current: 0.31A
footprint WE-PD_7332P
simulation model 7332_7447783681_680u
pins: 1, 2

## 7447785001
designator L?, comment 1uH, 3.5A  (value not drawn)
WE-PD SMT Power Inductor, size 6033R, 1uH, 3.5A, 39mOhm; Manufacturer Part Number: 7447785001; Manufacturer: Wurth Elektronik; DC Resistance: 31mOhm; Saturation Current: 4.5A; Self Resonant Frequency: 192MHz; Type: Robust; Category: Power Inductors; Match Code: WE-PD; ComponentLink1Description: Website Link; ComponentLink1URL: https://www.we-online.com/redexpert/article/7447785001?ad; ComponentLink2Description: Datasheet Link; ComponentLink2URL: https://www.we-online.com/redexpert/spec/7447785001?ad; Mount: Surface Mount; Operating Temperature Max: 125°C; Operating Temperature Min: -40°C; Packaging: Tape and Reel; Case/Size Code: 6033R; Length: 5.9mm; Width: 6.2mm; Height: 3.3mm; DC Resistance Max: 39mOhm; Inductance: 1uH; Rated Current: 3.5A
footprint WE-PD_6033R
simulation model 6033_7447785001_1u
pins: 1, 2

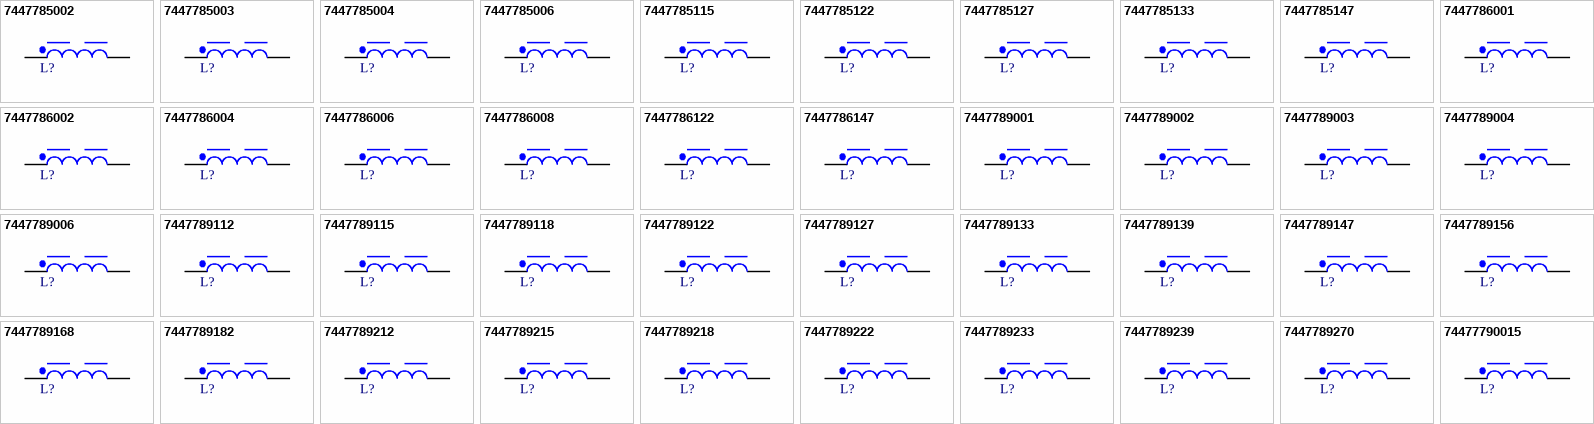
[diagram p8: symbols 7447785002 to 74477790015]

## 7447785002
designator L?, comment 2.2uH, 2.9A  (value not drawn)
WE-PD SMT Power Inductor, size 6033R, 2.2uH, 2.9A, 54mOhm; Manufacturer Part Number: 7447785002; Manufacturer: Wurth Elektronik; DC Resistance: 43mOhm; Saturation Current: 3.3A; Self Resonant Frequency: 88MHz; Type: Robust; Category: Power Inductors; Match Code: WE-PD; ComponentLink1Description: Website Link; ComponentLink1URL: https://www.we-online.com/redexpert/article/7447785002?ad; ComponentLink2Description: Datasheet Link; ComponentLink2URL: https://www.we-online.com/redexpert/spec/7447785002?ad; Mount: Surface Mount; Operating Temperature Max: 125°C; Operating Temperature Min: -40°C; Packaging: Tape and Reel; Case/Size Code: 6033R; Length: 5.9mm; Width: 6.2mm; Height: 3.3mm; DC Resistance Max: 54mOhm; Inductance: 2.2uH; Rated Current: 2.9A
footprint WE-PD_6033R
simulation model 6033_7447785002_2.2u
pins: 1, 2

## 7447785003
designator L?, comment 3.3uH, 2.8A  (value not drawn)
WE-PD SMT Power Inductor, size 6033R, 3.3uH, 2.8A, 67mOhm; Manufacturer Part Number: 7447785003; Manufacturer: Wurth Elektronik; DC Resistance: 43mOhm; Saturation Current: 3A; Self Resonant Frequency: 60MHz; Type: Robust; Category: Power Inductors; Match Code: WE-PD; ComponentLink1Description: Website Link; ComponentLink1URL: https://www.we-online.com/redexpert/article/7447785003?ad; ComponentLink2Description: Datasheet Link; ComponentLink2URL: https://www.we-online.com/redexpert/spec/7447785003?ad; Mount: Surface Mount; Operating Temperature Max: 125°C; Operating Temperature Min: -40°C; Packaging: Tape and Reel; Case/Size Code: 6033R; Length: 5.9mm; Width: 6.2mm; Height: 3.3mm; DC Resistance Max: 67mOhm; Inductance: 3.3uH; Rated Current: 2.8A
footprint WE-PD_6033R
simulation model 6033_7447785003_3.3u
pins: 1, 2

## 7447785004
designator L?, comment 4.7uH, 2.2A  (value not drawn)
WE-PD SMT Power Inductor, size 6033R, 4.7uH, 2.2A, 78mOhm; Manufacturer Part Number: 7447785004; Manufacturer: Wurth Elektronik; DC Resistance: 60mOhm; Saturation Current: 2.5A; Self Resonant Frequency: 53MHz; Type: Robust; Category: Power Inductors; Match Code: WE-PD; ComponentLink1Description: Website Link; ComponentLink1URL: https://www.we-online.com/redexpert/article/7447785004?ad; ComponentLink2Description: Datasheet Link; ComponentLink2URL: https://www.we-online.com/redexpert/spec/7447785004?ad; Mount: Surface Mount; Operating Temperature Max: 125°C; Operating Temperature Min: -40°C; Packaging: Tape and Reel; Case/Size Code: 6033R; Length: 5.9mm; Width: 6.2mm; Height: 3.3mm; DC Resistance Max: 78mOhm; Inductance: 4.7uH; Rated Current: 2.2A
footprint WE-PD_6033R
simulation model 6033_7447785004_4.7u
pins: 1, 2

## 7447785006
designator L?, comment 6.8uH, 2.3A  (value not drawn)
WE-PD SMT Power Inductor, size 6033R, 6.8uH, 2.3A, 100mOhm; Manufacturer Part Number: 7447785006; Manufacturer: Wurth Elektronik; DC Resistance: 79mOhm; Saturation Current: 2A; Self Resonant Frequency: 45MHz; Type: Robust; Category: Power Inductors; Match Code: WE-PD; ComponentLink1Description: Website Link; ComponentLink1URL: https://www.we-online.com/redexpert/article/7447785006?ad; ComponentLink2Description: Datasheet Link; ComponentLink2URL: https://www.we-online.com/redexpert/spec/7447785006?ad; Mount: Surface Mount; Operating Temperature Max: 125°C; Operating Temperature Min: -40°C; Packaging: Tape and Reel; Case/Size Code: 6033R; Length: 5.9mm; Width: 6.2mm; Height: 3.3mm; DC Resistance Max: 100mOhm; Inductance: 6.8uH; Rated Current: 2.3A
footprint WE-PD_6033R
simulation model 6033_7447785006_6.8u
pins: 1, 2

## 7447785115
designator L?, comment 15uH, 1.6A  (value not drawn)
WE-PD SMT Power Inductor, size 6033R, 15uH, 1.6A, 200mOhm; Manufacturer Part Number: 7447785115; Manufacturer: Wurth Elektronik; DC Resistance: 165mOhm; Saturation Current: 1.4A; Self Resonant Frequency: 28MHz; Type: Robust; Category: Power Inductors; Match Code: WE-PD; ComponentLink1Description: Website Link; ComponentLink1URL: https://www.we-online.com/redexpert/article/7447785115?ad; ComponentLink2Description: Datasheet Link; ComponentLink2URL: https://www.we-online.com/redexpert/spec/7447785115?ad; Mount: Surface Mount; Operating Temperature Max: 125°C; Operating Temperature Min: -40°C; Packaging: Tape and Reel; Case/Size Code: 6033R; Length: 5.9mm; Width: 6.2mm; Height: 3.3mm; DC Resistance Max: 200mOhm; Inductance: 15uH; Rated Current: 1.6A
footprint WE-PD_6033R
simulation model 6033_7447785115_15u
pins: 1, 2

## 7447785122
designator L?, comment 22uH, 1.35A  (value not drawn)
WE-PD SMT Power Inductor, size 6033R, 22uH, 1.35A, 250mOhm; Manufacturer Part Number: 7447785122; Manufacturer: Wurth Elektronik; DC Resistance: 210mOhm; Saturation Current: 1.1A; Self Resonant Frequency: 23MHz; Type: Robust; Category: Power Inductors; Match Code: WE-PD; ComponentLink1Description: Website Link; ComponentLink1URL: https://www.we-online.com/redexpert/article/7447785122?ad; ComponentLink2Description: Datasheet Link; ComponentLink2URL: https://www.we-online.com/redexpert/spec/7447785122?ad; Mount: Surface Mount; Operating Temperature Max: 125°C; Operating Temperature Min: -40°C; Packaging: Tape and Reel; Case/Size Code: 6033R; Length: 5.9mm; Width: 6.2mm; Height: 3.3mm; DC Resistance Max: 250mOhm; Inductance: 22uH; Rated Current: 1.35A
footprint WE-PD_6033R
simulation model 6033_7447785122_22u
pins: 1, 2

## 7447785127
designator L?, comment 27uH, 0.9A  (value not drawn)
WE-PD SMT Power Inductor, size 6033R, 27uH, 0.9A, 360mOhm; Manufacturer Part Number: 7447785127; Manufacturer: Wurth Elektronik; DC Resistance: 300mOhm; Saturation Current: 1A; Self Resonant Frequency: 18MHz; Type: Robust; Category: Power Inductors; Match Code: WE-PD; ComponentLink1Description: Website Link; ComponentLink1URL: https://www.we-online.com/redexpert/article/7447785127?ad; ComponentLink2Description: Datasheet Link; ComponentLink2URL: https://www.we-online.com/redexpert/spec/7447785127?ad; Mount: Surface Mount; Operating Temperature Max: 125°C; Operating Temperature Min: -40°C; Packaging: Tape and Reel; Case/Size Code: 6033R; Length: 5.9mm; Width: 6.2mm; Height: 3.3mm; DC Resistance Max: 360mOhm; Inductance: 27uH; Rated Current: 0.9A
footprint WE-PD_6033R
simulation model 6033_7447785127_27u
pins: 1, 2

## 7447785133
designator L?, comment 33uH, 0.85A  (value not drawn)
WE-PD SMT Power Inductor, size 6033R, 33uH, 0.85A, 400mOhm; Manufacturer Part Number: 7447785133; Manufacturer: Wurth Elektronik; DC Resistance: 340mOhm; Saturation Current: 0.9A; Self Resonant Frequency: 17MHz; Type: Robust; Category: Power Inductors; Match Code: WE-PD; ComponentLink1Description: Website Link; ComponentLink1URL: https://www.we-online.com/redexpert/article/7447785133?ad; ComponentLink2Description: Datasheet Link; ComponentLink2URL: https://www.we-online.com/redexpert/spec/7447785133?ad; Mount: Surface Mount; Operating Temperature Max: 125°C; Operating Temperature Min: -40°C; Packaging: Tape and Reel; Case/Size Code: 6033R; Length: 5.9mm; Width: 6.2mm; Height: 3.3mm; DC Resistance Max: 400mOhm; Inductance: 33uH; Rated Current: 0.85A
footprint WE-PD_6033R
simulation model 6033_7447785133_33u
pins: 1, 2

## 7447785147
designator L?, comment 47uH, 0.85A  (value not drawn)
WE-PD SMT Power Inductor, size 6033R, 47uH, 0.85A, 600mOhm; Manufacturer Part Number: 7447785147; Manufacturer: Wurth Elektronik; DC Resistance: 500mOhm; Saturation Current: 0.74A; Self Resonant Frequency: 16.5MHz; Type: Robust; Category: Power Inductors; Match Code: WE-PD; ComponentLink1Description: Website Link; ComponentLink1URL: https://www.we-online.com/redexpert/article/7447785147?ad; ComponentLink2Description: Datasheet Link; ComponentLink2URL: https://www.we-online.com/redexpert/spec/7447785147?ad; Mount: Surface Mount; Operating Temperature Max: 125°C; Operating Temperature Min: -40°C; Packaging: Tape and Reel; Case/Size Code: 6033R; Length: 5.9mm; Width: 6.2mm; Height: 3.3mm; DC Resistance Max: 600mOhm; Inductance: 47uH; Rated Current: 0.85A
footprint WE-PD_6033R
simulation model 6033_7447785147_47u
pins: 1, 2

## 7447786001
designator L?, comment 1uH, 5A  (value not drawn)
WE-PD SMT Power Inductor, size 6050R, 1uH, 5A, 34mOhm; Manufacturer Part Number: 7447786001; Manufacturer: Wurth Elektronik; DC Resistance: 28mOhm; Saturation Current: 5.5A; Self Resonant Frequency: 180MHz; Type: Robust; Category: Power Inductors; Match Code: WE-PD; ComponentLink1Description: Website Link; ComponentLink1URL: https://www.we-online.com/redexpert/article/7447786001?ad; ComponentLink2Description: Datasheet Link; ComponentLink2URL: https://www.we-online.com/redexpert/spec/7447786001?ad; Mount: Surface Mount; Operating Temperature Max: 125°C; Operating Temperature Min: -40°C; Packaging: Tape and Reel; Case/Size Code: 6050R; Length: 5.9mm; Width: 6.2mm; Height: 5.1mm; DC Resistance Max: 34mOhm; Inductance: 1uH; Rated Current: 5A
footprint WE-PD_6050R
simulation model 6050_7447786001_1u
pins: 1, 2

## 7447786002
designator L?, comment 2.2uH, 3.5A  (value not drawn)
WE-PD SMT Power Inductor, size 6050R, 2.2uH, 3.5A, 49mOhm; Manufacturer Part Number: 7447786002; Manufacturer: Wurth Elektronik; DC Resistance: 40mOhm; Saturation Current: 4A; Self Resonant Frequency: 115MHz; Type: Robust; Category: Power Inductors; Match Code: WE-PD; ComponentLink1Description: Website Link; ComponentLink1URL: https://www.we-online.com/redexpert/article/7447786002?ad; ComponentLink2Description: Datasheet Link; ComponentLink2URL: https://www.we-online.com/redexpert/spec/7447786002?ad; Mount: Surface Mount; Operating Temperature Max: 125°C; Operating Temperature Min: -40°C; Packaging: Tape and Reel; Case/Size Code: 6050R; Length: 5.9mm; Width: 6.2mm; Height: 5.1mm; DC Resistance Max: 49mOhm; Inductance: 2.2uH; Rated Current: 3.5A
footprint WE-PD_6050R
simulation model 6050_7447786002_2.2u
pins: 1, 2

## 7447786004
designator L?, comment 4.7uH, 2.8A  (value not drawn)
WE-PD SMT Power Inductor, size 6050R, 4.7uH, 2.8A, 65mOhm; Manufacturer Part Number: 7447786004; Manufacturer: Wurth Elektronik; DC Resistance: 57mOhm; Self Resonant Frequency: 60MHz; Type: Robust; Category: Power Inductors; Match Code: WE-PD; ComponentLink1Description: Website Link; ComponentLink1URL: https://www.we-online.com/redexpert/article/7447786004?ad; ComponentLink2Description: Datasheet Link; ComponentLink2URL: https://www.we-online.com/redexpert/spec/7447786004?ad; Mount: Surface Mount; Operating Temperature Max: 125°C; Operating Temperature Min: -40°C; Packaging: Tape and Reel; Case/Size Code: 6050R; Length: 5.9mm; Width: 6.2mm; Height: 5.1mm; DC Resistance Max: 65mOhm; Inductance: 4.7uH; Rated Current: 2.8A; Saturation Current: 2.8A
footprint WE-PD_6050R
simulation model 6050_7447786004_4.7u
pins: 1, 2